# EAGLE library part CY8C29566 (library cypresspsoc_0.30)
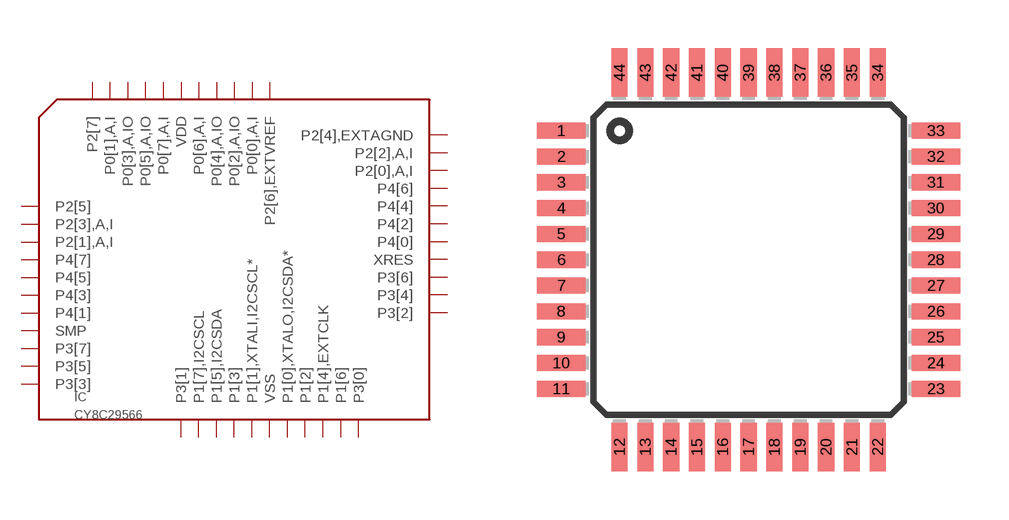
[diagram p7: symbol with the pads of TQFP44; footprint TQFP44]

Designator prefix IC

## CY8C29566_TQFP44  [TQFP44]
1  P2[5]
2  P2[3],A,I
3  P2[1],A,I
4  P4[7]
5  P4[5]
6  P4[3]
7  P4[1]
8  SMP  pwr
9  P3[7]
10  P3[5]
11  P3[3]
12  P3[1]
13  P1[7],I2CSCL
14  P1[5],I2CSDA
15  P1[3]
16  P1[1],XTALI,I2CSCL*
17  VSS  pwr
18  P1[0],XTALO,I2CSDA*
19  P1[2]
20  P1[4],EXTCLK
21  P1[6]
22  P3[0]
23  P3[2]
24  P3[4]
25  P3[6]
26  XRES
27  P4[0]
28  P4[2]
29  P4[4]
30  P4[6]
31  P2[0],A,I
32  P2[2],A,I
33  P2[4],EXTAGND
34  P2[6],EXTVREF
35  P0[0],A,I
36  P0[2],A,IO
37  P0[4],A,IO
38  P0[6],A,I
39  VDD  pwr
40  P0[7],A,I
41  P0[5],A,IO
42  P0[3],A,IO
43  P0[1],A,I
44  P2[7]

## Footprint TQFP44 (pad centres in mm)
Thin Quad Flat Pack package type TQ
smd 1.5 x 0.5: 1 -5.8,4; 2 -5.8,3.2; 3 -5.8,2.4; 4 -5.8,1.6; 5 -5.8,0.8; 6 -5.8,0; 7 -5.8,-0.8; 8 -5.8,-1.6; 9 -5.8,-2.4; 10 -5.8,-3.2; 11 -5.8,-4; 23 5.8,-4; 24 5.8,-3.2; 25 5.8,-2.4; 26 5.8,-1.6; 27 5.8,-0.8; 28 5.8,0; 29 5.8,0.8; 30 5.8,1.6; 31 5.8,2.4; 32 5.8,3.2; 33 5.8,4
smd 0.5 x 1.5: 12 -4,-5.8; 13 -3.2,-5.8; 14 -2.4,-5.8; 15 -1.6,-5.8; 16 -0.8,-5.8; 17 0,-5.8; 18 0.8,-5.8; 19 1.6,-5.8; 20 2.4,-5.8; 21 3.2,-5.8; 22 4,-5.8; 34 4,5.8; 35 3.2,5.8; 36 2.4,5.8; 37 1.6,5.8; 38 0.8,5.8; 39 0,5.8; 40 -0.8,5.8; 41 -1.6,5.8; 42 -2.4,5.8; 43 -3.2,5.8; 44 -4,5.8